# EAGLE library part CN-MICROBIT (library Header and Connector)
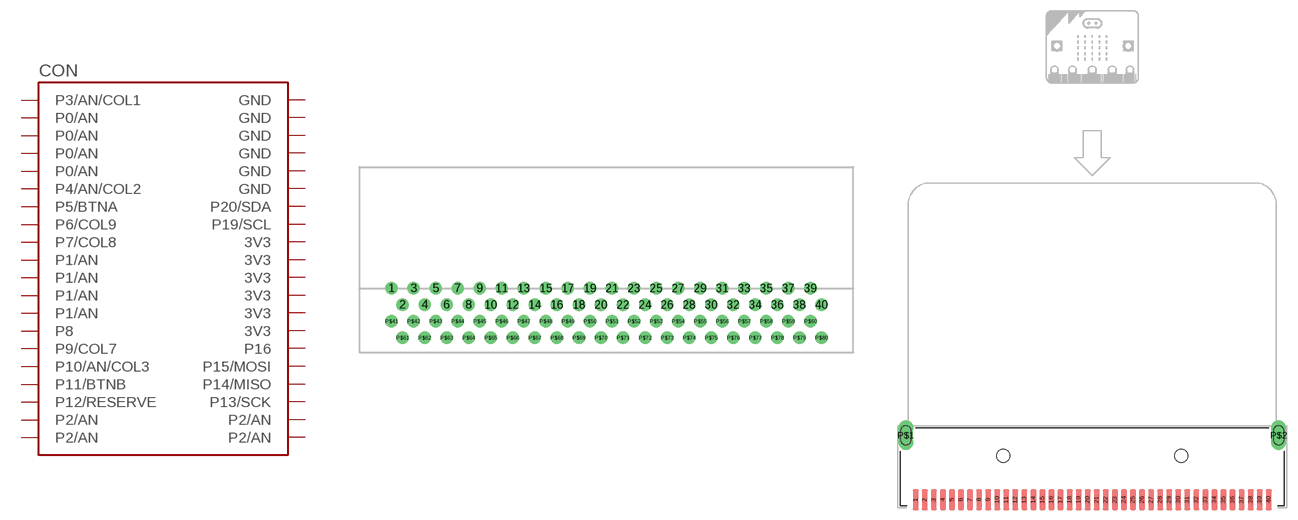
[diagram p43: symbol with the pads of CN-CE16R-80; footprints CN-CE16R-80, S-CN-MICROBIT-RA]

Designator prefix CON

## CN-MICROBIT_(CE16R) (CYTRON-PC: CN-CE16R-80; DESC: Microbit Right Angle Connector; VALUE: 40 Ways)  [CN-CE16R-80]
1  P3/AN/COL1
2  P0/AN
3  P0/AN
4  P0/AN
5  P0/AN
6  P4/AN/COL2
7  P5/BTNA
8  P6/COL9
9  P7/COL8
10  P1/AN
11  P1/AN
12  P1/AN
13  P1/AN
14  P8
15  P9/COL7
16  P10/AN/COL3
17  P11/BTNB
18  P12/RESERVE
19  P2/AN
20  P2/AN
21  P2/AN
22  P2/AN
23  P13/SCK
24  P14/MISO
25  P15/MOSI
26  P16
27  3V3
28  3V3
29  3V3
30  3V3
31  3V3
32  3V3
33  P19/SCL
34  P20/SDA
35  GND
36  GND
37  GND
38  GND
39  GND
40  GND

## CN-MICROBIT_(PCIRSM127) (CYTRON-PC: S-CN-MICROBIT-RA; DESC: Microbit SMD Right Angle Connector; VALUE: 40 Ways)  [S-CN-MICROBIT-RA]
Pads as for CN-CE16R-80

## Footprint CN-CE16R-80 (pad centres in mm)
Microbit connector CE16R-80 Created by: Idris
drill 0.889: 1 -24.765,0; 2 -23.495,-1.9; 3 -22.225,0; 4 -20.955,-1.9; 5 -19.685,0; 6 -18.415,-1.9; 7 -17.145,0; 8 -15.875,-1.9; 9 -14.605,0; 10 -13.335,-1.9; 11 -12.065,0; 12 -10.795,-1.9; 13 -9.525,0; 14 -8.255,-1.9; 15 -6.985,0; 16 -5.715,-1.9; 17 -4.445,0; 18 -3.175,-1.9; 19 -1.905,0; 20 -0.635,-1.9; 21 0.635,0; 22 1.905,-1.9; 23 3.175,0; 24 4.445,-1.9; 25 5.715,0; 26 6.985,-1.9; 27 8.255,0; 28 9.525,-1.9; 29 10.795,0; 30 12.065,-1.9; 31 13.335,0; 32 14.605,-1.9; 33 15.875,0; 34 17.145,-1.9; 35 18.415,0; 36 19.685,-1.9; 37 20.955,0; 38 22.225,-1.9; 39 23.495,0; 40 24.765,-1.9; P$41 -24.765,-3.8; P$42 -22.225,-3.8; P$43 -19.685,-3.8; P$44 -17.145,-3.8; P$45 -14.605,-3.8; P$46 -12.065,-3.8; P$47 -9.525,-3.8; P$48 -6.985,-3.8; P$49 -4.445,-3.8; P$50 -1.905,-3.8; P$51 0.635,-3.8; P$52 3.175,-3.8; P$53 5.715,-3.8; P$54 8.255,-3.8; P$55 10.795,-3.8; P$56 13.335,-3.8; P$57 15.875,-3.8; P$58 18.415,-3.8; P$59 20.955,-3.8; P$60 23.495,-3.8; P$61 -23.495,-5.7; P$62 -20.955,-5.7; P$63 -18.415,-5.7; P$64 -15.875,-5.7; P$65 -13.335,-5.7; P$66 -10.795,-5.7; P$67 -8.255,-5.7; P$68 -5.715,-5.7; P$69 -3.175,-5.7; P$70 -0.635,-5.7; P$71 1.905,-5.7; P$72 4.445,-5.7; P$73 6.985,-5.7; P$74 9.525,-5.7; P$75 12.065,-5.7; P$76 14.605,-5.7; P$77 17.145,-5.7; P$78 19.685,-5.7; P$79 22.225,-5.7; P$80 24.765,-5.7

## Footprint S-CN-MICROBIT-RA (pad centres in mm)
Microbit SMD connector Part No: PCIRSM127-40SG-LK Dimension: 56.6 mm x 11.5 mm Created by: Idris
smd 0.9 x 3: 1 -24.765,-6.15; 2 -23.495,-6.15; 3 -22.225,-6.15; 4 -20.955,-6.15; 5 -19.685,-6.15; 6 -18.415,-6.15; 7 -17.145,-6.15; 8 -15.875,-6.15; 9 -14.605,-6.15; 10 -13.335,-6.15; 11 -12.065,-6.15; 12 -10.795,-6.15; 13 -9.525,-6.15; 14 -8.255,-6.15; 15 -6.985,-6.15; 16 -5.715,-6.15; 17 -4.445,-6.15; 18 -3.175,-6.15; 19 -1.905,-6.15; 20 -0.635,-6.15; 21 0.635,-6.15; 22 1.905,-6.15; 23 3.175,-6.15; 24 4.445,-6.15; 25 5.715,-6.15; 26 6.985,-6.15; 27 8.255,-6.15; 28 9.525,-6.15; 29 10.795,-6.15; 30 12.065,-6.15; 31 13.335,-6.15; 32 14.605,-6.15; 33 15.875,-6.15; 34 17.145,-6.15; 35 18.415,-6.15; 36 19.685,-6.15; 37 20.955,-6.15; 38 22.225,-6.15; 39 23.495,-6.15; 40 24.765,-6.15
drill 1.4 long: P$1 -26.15,2.9; P$2 26.15,2.9
hole 1.8 at -12.5,0
hole 1.8 at 12.5,0